# EAGLE library part BLUENRG-232 (library BlueHome)
Bluetooth Low Energy Wireless Soc
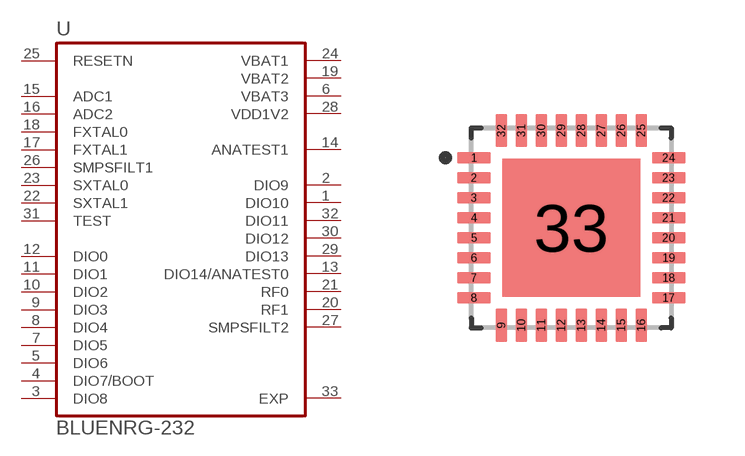
[diagram p1: symbol with the pads of QFN50P500X500X100-33T345N; footprint QFN50P500X500X100-33T345N]

Designator prefix U

## BLUENRG-232 (AVAILABILITY: Unavailable; DESCRIPTION: Bluetooth Low Energy Wireless Soc; MF: STMicroelectronics; MP: BLUENRG-232; PACKAGE: VFQFN-32 STMicroelectronics; PRICE: None)  [QFN50P500X500X100-33T345N]
1  DIO10
2  DIO9
3  DIO8
4  DIO7/BOOT
5  DIO6
6  VBAT3  pwr
7  DIO5
8  DIO4
9  DIO3
10  DIO2
11  DIO1
12  DIO0
13  DIO14/ANATEST0
14  ANATEST1  out
15  ADC1  in
16  ADC2  in
17  FXTAL1  in
18  FXTAL0  in
19  VBAT2  pwr
20  RF1
21  RF0
22  SXTAL1  in
23  SXTAL0  in
24  VBAT1  pwr
25  RESETN  in
26  SMPSFILT1  in
27  SMPSFILT2
28  VDD1V2  pwr
29  DIO13
30  DIO12
31  TEST  in
32  DIO11
33  EXP  pwr

## Footprint QFN50P500X500X100-33T345N (pad centres in mm)
smd 0.84 x 0.29: 1 -2.435,1.75; 2 -2.435,1.25; 3 -2.435,0.75; 4 -2.435,0.25; 5 -2.435,-0.25; 6 -2.435,-0.75; 7 -2.435,-1.25; 8 -2.435,-1.75; 17 2.435,-1.75; 18 2.435,-1.25; 19 2.435,-0.75; 20 2.435,-0.25; 21 2.435,0.25; 22 2.435,0.75; 23 2.435,1.25; 24 2.435,1.75
smd 0.29 x 0.84: 9 -1.75,-2.435; 10 -1.25,-2.435; 11 -0.75,-2.435; 12 -0.25,-2.435; 13 0.25,-2.435; 14 0.75,-2.435; 15 1.25,-2.435; 16 1.75,-2.435; 25 1.75,2.435; 26 1.25,2.435; 27 0.75,2.435; 28 0.25,2.435; 29 -0.25,2.435; 30 -0.75,2.435; 31 -1.25,2.435; 32 -1.75,2.435
smd 3.45 x 3.45: 33 0,0